# Altium footprint library PcbLib1.PcbLib: 9 footprints
Each footprint in its own frame and in the unit in brackets; x right, y up, seen from the top. Pads: shape width x height; smd on the part's side, far side on the other; paste and mask are expansions set on the pad; w line width, h text height; cw(c..) or ccw(c..) is an arc to the next point about the centre after c.
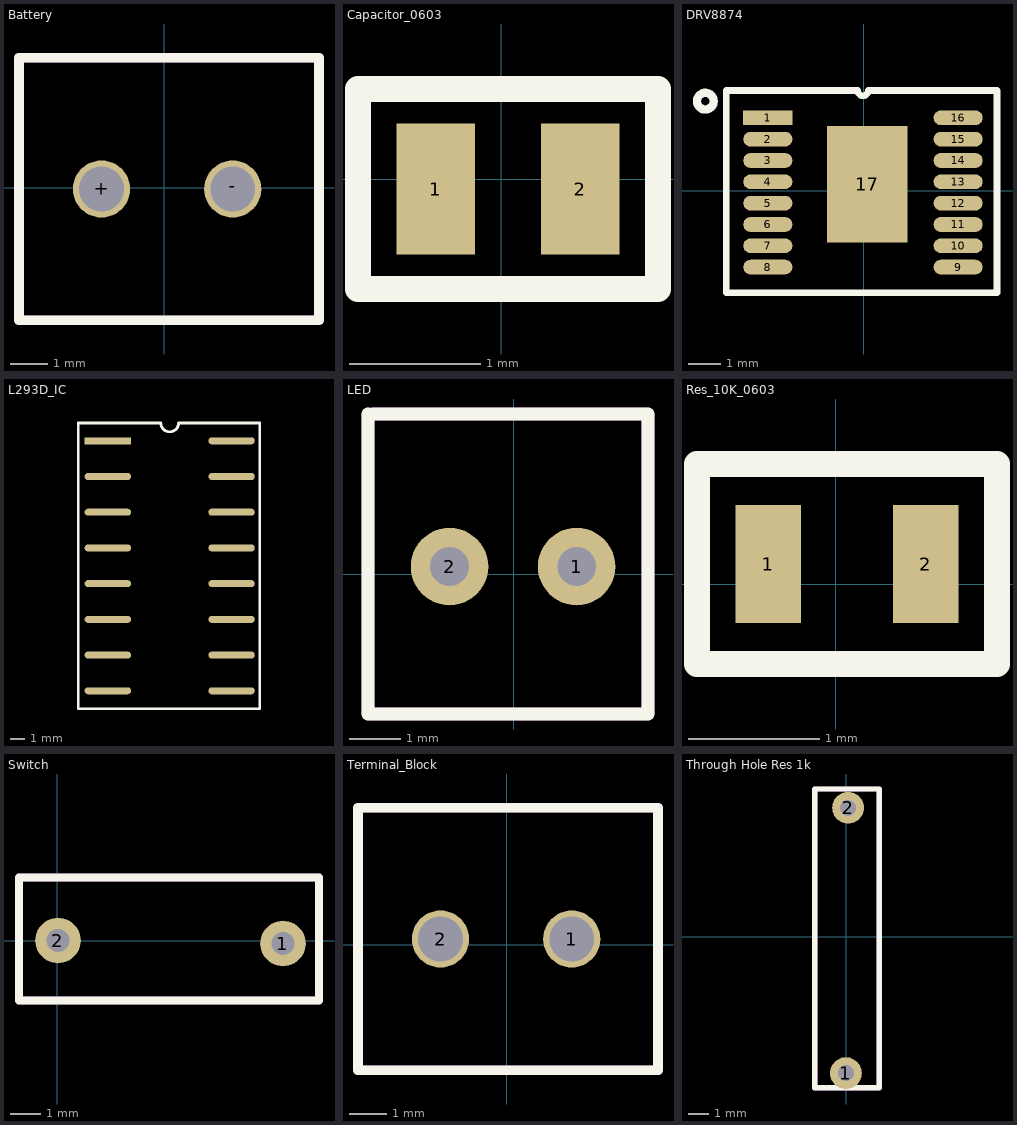
[diagram p0: the footprints below, top view; thin cyan lines are the x and y axes]

## Battery [mil]
pads (2):
  round 60 hole 47.24: +(-65.63,-1.22) -(72.17,-1.22)
Top Overlay:
  lines w10: -152.24,-139.02 -152.24,136.57 162.72,136.57 162.72,-139.02 -152.24,-139.02
Mechanical 1:
  lines w10: -152.24,-139.02 -152.24,136.57 162.72,136.57 162.72,-139.02 -152.24,-139.02
  text ".Designator" at -39.88,1.21 h60
3D body "2445P Screw Terminal Block- 2 Pin, 3.5mm Pitch, Side Entry.SLDPRT": height 358.27, standoff -109.84, extent -148.31,-135.08 158.78,132.64

## Capacitor_0603 [mm]
pads (2):
  rect 0.6x1 smd: 1(-0.5,-0.076) 2(0.6,-0.076)
Top Overlay:
  lines w0.2: -1.093,-0.838 -1.093,0.686 1.193,0.686 1.193,-0.838 -1.093,-0.838
Mechanical 1:
  text ".Designator" at -0.712,-0.457 h1.52
3D body "capacitor_rnd_1500603b221k500.stp": height 0.8, standoff 0, extent -0.712,-0.457 0.888,0.343

## DRV8874 [mm]
pads (17):
  rect 1.5x0.45 smd: 1(-2.93,2.221)
  oval 1.5x0.45 smd: 2(-2.93,1.571) 3(-2.93,0.921) 4(-2.93,0.271) 5(-2.93,-0.379) 6(-2.93,-1.029) 7(-2.93,-1.679) 8(-2.93,-2.329) 9(2.87,-2.329) 10(2.87,-1.679) 11(2.87,-1.029) 12(2.87,-0.379) 13(2.87,0.271) 14(2.87,0.921) 15(2.87,1.571) 16(2.87,2.221)
  rect 2.46x3.55 smd: 17(0.097,0.2)
Top Overlay:
  circle w0.254: c-4.835,2.729 r0.254
  lines w0.2: -4.2,-3.113 4.055,-3.113 4.055,3.054 0.132,3.054 cw(c-0.03,3.054) -0.192,3.054 -4.2,3.054 -4.2,-3.113
3D body "DRV8874PWPR.STEP": height 1.2, standoff 0, extent -3.23,-2.554 3.17,2.446

## L293D_IC [mm]
pads (16):
  rect 3.3x0.5 smd: 1(10.3,-11.3)
  oval 3.3x0.5 smd: 2(10.3,-13.84) 3(10.3,-16.38) 4(10.3,-18.92) 5(10.3,-21.46) 6(10.3,-24) 7(10.3,-26.54) 8(10.3,-29.08) 9(19.1,-29.08) 10(19.1,-26.54) 11(19.1,-24) 12(19.1,-21.46) 13(19.1,-18.92) 14(19.1,-16.38) 15(19.1,-13.84) 16(19.1,-11.3)
Top Overlay:
  lines w0.2: 8.2,-30.35 8.2,-10.03 14.065,-10.03 ccw(c14.7,-10.03) 15.335,-10.03 21.1,-10.03 21.1,-30.35 8.2,-30.35

## LED [mil]
pads (2):
  round 60 hole 30: 1(48.58,5.91) 2(-49.84,5.91)
Top Overlay:
  lines w10: -112.83,124.02 -112.83,-108.27 103.7,-108.27 103.7,124.02 -108.9,124.02
Mechanical 1:
  lines w10: -112.83,-108.27 -112.83,124.02 103.7,124.02 103.7,-108.27 -112.83,-108.27
3D body "LED 5mm blue TH.stp": height 362.2, standoff -116.14, extent -108.9,-108.21 103.7,124.02

## Res_10K_0603 [mm]
pads (2):
  rect 0.5x0.9 smd: 1(-0.513,0.156) 2(0.687,0.156)
Top Overlay:
  lines w0.2: -1.056,-0.606 -1.056,0.918 1.23,0.918 1.23,-0.606 -1.056,-0.606
Mechanical 1:
  text ".Designator" at -0.675,-0.479 h0.38
3D body "CircuitWorks-RESISTOR 0603.STEP": height 0.48, standoff -0.03, extent -0.713,-0.274 0.887,0.586

## Switch [mil]
pads (2):
  round 60 hole 30: 1(295.94,-3.82) 2(0.67,0.12)
Top Overlay:
  lines w10: -50.51,-78.62 -50.51,82.8 343.19,82.8 343.19,-78.62 -50.51,-78.62
Mechanical 1:
  lines w10: -50.51,-78.62 -50.51,82.8 343.19,82.8 343.19,-78.62 -50.51,-78.62
  text ".Designator" at 46.1,-52.57 h60
3D body "DS1040-01 (DIP_switch).stp": height 267.72, standoff -151.57, extent -48.54,-78.62 341.22,78.86

## Terminal_Block [mil]
pads (2):
  round 60 hole 47.24: 1(68.27,5.83) 2(-69.53,5.83)
Top Overlay:
  lines w10: -156.14,-131.97 158.82,-131.97 158.82,143.62 -156.14,143.62 -156.14,-131.97
Mechanical 1:
  lines w10: -156.14,-131.97 158.82,-131.97 158.82,143.62 -156.14,143.62 -156.14,-131.97
  text ".Designator" at -43.78,8.26 h60
3D body "2445P Screw Terminal Block- 2 Pin, 3.5mm Pitch, Side Entry.SLDPRT": height 358.27, standoff -109.84, extent -152.2,-128.03 154.88,139.69

## Through Hole Res 1k [mil]
pads (2):
  round 60 hole 30: 1(-0.79,-257.05) 2(3.15,242.95)
Top Overlay:
  lines w10: -59.84,-284.61 62.2,-284.61 62.2,278.39 -59.84,278.39 -59.84,-284.61
Mechanical 1:
  lines w10: -59.84,-284.61 58.27,-284.61 62.2,-280.67 62.2,278.39 -59.84,278.39 -59.84,-284.61
3D body "Resistor Axial 0.5W - Pitch 12.7mm (500mil) - Value 1K.STEP": height 118.11, standoff -147.64, extent -55.91,-264.84 62.2,254.76